# Altium footprint library sh1.0.PcbLib: 1 footprints
Each footprint in its own frame and in the unit in brackets; x right, y up, seen from the top. Pads: shape width x height; smd on the part's side, far side on the other; paste and mask are expansions set on the pad; w line width, h text height; cw(c..) or ccw(c..) is an arc to the next point about the centre after c.
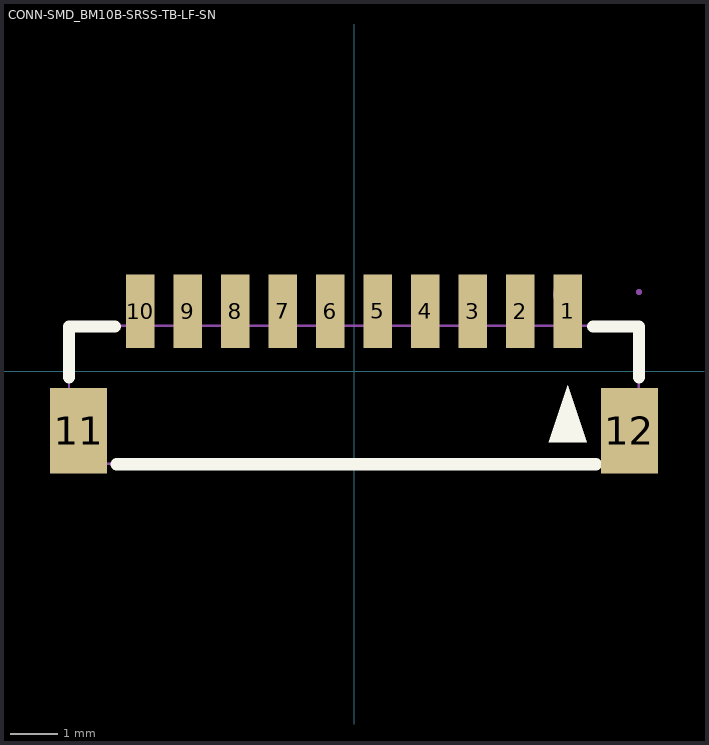
[diagram p0: the footprint, top view; thin cyan lines are the x and y axes]

## CONN-SMD_BM10B-SRSS-TB-LF-SN [mm]
pads (12):
  rect 0.6x1.55 smd: 1(4.5,1.263) 2(3.5,1.263) 3(2.5,1.263) 4(1.5,1.263) 5(0.5,1.263) 6(-0.5,1.263) 7(-1.5,1.263) 8(-2.5,1.263) 9(-3.5,1.263) 10(-4.5,1.263)
  rect 1.2x1.8 smd: 11(-5.8,-1.263) 12(5.8,-1.263)
Top Overlay:
  region: 4.9,-1.5 4.1,-1.5 4.5,-0.3
  lines w0.254: -6,-0.131 -6,0.937 -5.031,0.937 ; -5,-1.963 5.1,-1.963 ; 5.031,0.937 6,0.937 6,-0.131
Mechanical 6:
  circle w0.3: c4.492,1.615 r0.15
Mechanical 15:
  region: -5.602,-1.951 -5.802,-1.951 -5.802,-0.451 -5.602,-0.451
  region: 5.799,-1.951 5.599,-1.951 5.599,-0.451 5.799,-0.451
  region: 4.625,0.762 4.375,0.762 4.375,1.662 4.625,1.662
  region: 3.625,0.762 3.375,0.762 3.375,1.662 3.625,1.662
  region: 2.625,0.762 2.375,0.762 2.375,1.662 2.625,1.662
  region: 1.625,0.762 1.375,0.762 1.375,1.662 1.625,1.662
  region: 0.625,0.762 0.375,0.762 0.375,1.662 0.625,1.662
  region: -0.375,0.762 -0.625,0.762 -0.625,1.662 -0.375,1.662
  region: -1.375,0.762 -1.625,0.762 -1.625,1.662 -1.375,1.662
  region: -3.375,0.762 -3.625,0.762 -3.625,1.662 -3.375,1.662
  region: -4.375,0.762 -4.625,0.762 -4.625,1.662 -4.375,1.662
  region: -2.375,0.762 -2.625,0.762 -2.625,1.662 -2.375,1.662
  region: 6.059,1.662 6.058,1.686 6.023,1.72 5.974,1.72 5.939,1.686 5.939,1.662 5.939,1.637 5.974,1.603 6.023,1.603 6.058,1.637
  lines w0.051: -6.002,-1.951 -6.002,-0.033 -5.998,-0.033 -5.998,-0.043 -5.986,0.957 5.999,0.957 5.999,-1.951 -6.002,-1.951
3D body "U1.step": height 4.3, standoff 0, extent -5.995,-1.895 6.006,1.705